# EAGLE library part EE310_RCTANK_PROTOA_ATMEGA328P-MU (library pwmCatMoto)
ATmega Series 20 MHz 32 KB Flash 2 KB SRAM 8-Bit Microcontroller - QFN-32
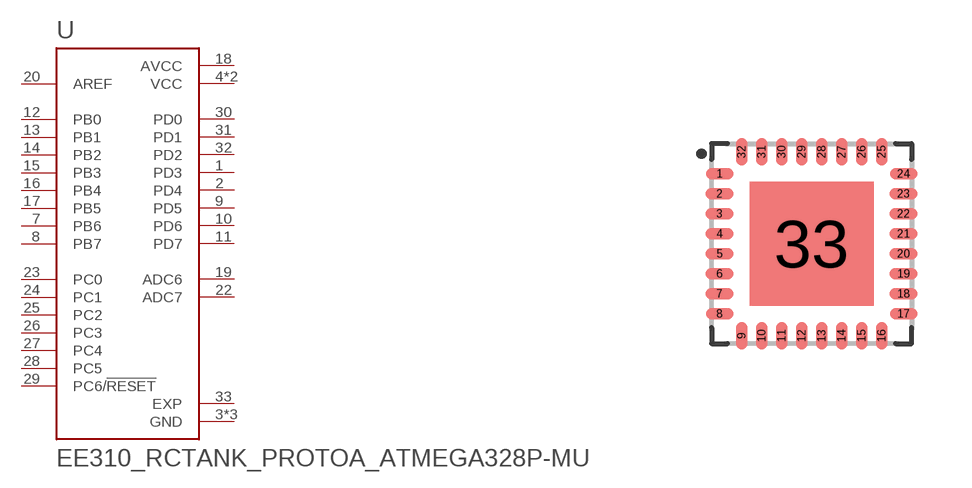
[diagram p1: symbol with the pads of EE310_RCTANK_PROTOA_QFN50P500X500X100-33N; footprint EE310_RCTANK_PROTOA_QFN50P500X500X100-33N]

Designator prefix U

## EE310_RCTANK_PROTOA_ATMEGA328P-MU (AVAILABILITY: Good; DESCRIPTION: IC MCU 8BIT 32KB FLASH 32VQFN; MF: Microchip; MP: ATMEGA328P-MU; PACKAGE: VQFN-32 Microchip; PRICE: 2.07 USD)  [EE310_RCTANK_PROTOA_QFN50P500X500X100-33N]
1  PD3
2  PD4
3  GND  pwr
4  VCC  pwr
5  GND  pwr
6  VCC  pwr
7  PB6
8  PB7
9  PD5
10  PD6
11  PD7
12  PB0
13  PB1
14  PB2
15  PB3
16  PB4
17  PB5
18  AVCC  pwr
19  ADC6
20  AREF  in
21  GND  pwr
22  ADC7
23  PC0
24  PC1
25  PC2
26  PC3
27  PC4
28  PC5
29  PC6/!RESET
30  PD0
31  PD1
32  PD2
33  EXP  pwr

## Footprint EE310_RCTANK_PROTOA_QFN50P500X500X100-33N (pad centres in mm)
smd 0.69 x 0.29: 1 -2.3,1.75; 8 -2.3,-1.75; 17 2.3,-1.75; 24 2.3,1.75
smd 0.7 x 0.29: 2 -2.3,1.25; 3 -2.3,0.75; 4 -2.3,0.25; 5 -2.3,-0.25; 6 -2.3,-0.75; 7 -2.3,-1.25; 18 2.3,-1.25; 19 2.3,-0.75; 20 2.3,-0.25; 21 2.3,0.25; 22 2.3,0.75; 23 2.3,1.25
smd 0.29 x 0.69: 9 -1.75,-2.3; 16 1.75,-2.3; 25 1.75,2.3; 32 -1.75,2.3
smd 0.29 x 0.7: 10 -1.25,-2.3; 11 -0.75,-2.3; 12 -0.25,-2.3; 13 0.25,-2.3; 14 0.75,-2.3; 15 1.25,-2.3; 26 1.25,2.3; 27 0.75,2.3; 28 0.25,2.3; 29 -0.25,2.3; 30 -0.75,2.3; 31 -1.25,2.3
smd 3.1 x 3.1: 33 0,0